# Altium footprint library TNPW080510K0FEEA.PcbLib: 1 footprints
Each footprint in its own frame and in the unit in brackets; x right, y up, seen from the top. Pads: shape width x height; smd on the part's side, far side on the other; paste and mask are expansions set on the pad; w line width, h text height; cw(c..) or ccw(c..) is an arc to the next point about the centre after c.
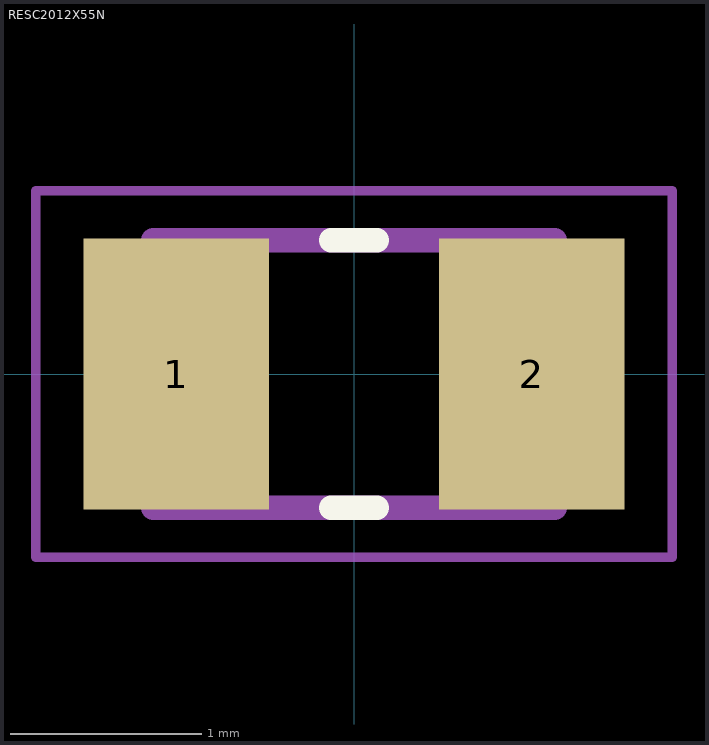
[diagram p0: the footprint, top view; thin cyan lines are the x and y axes]

## RESC2012X55N [mm]
pads (2):
  rect 0.97x1.42 smd: 1(-0.93,0) 2(0.93,0)
Top Overlay:
  lines w0.127: -0.12,-0.7 0.12,-0.7 ; -0.12,0.7 0.12,0.7
Mechanical 13:
  lines w0.127: -1.05,-0.7 -1.05,0.7 1.05,0.7 1.05,-0.7 -1.05,-0.7
Mechanical 15:
  lines w0.05: -1.665,-0.96 -1.665,0.96 1.665,0.96 1.665,-0.96 -1.665,-0.96
3D body "TNPW080510K0FEEA.STEP": height 0.55, standoff 0, extent -1,-0.625 1,0.625